# EAGLE library part LTC3114-1 (library uni_dcdc)
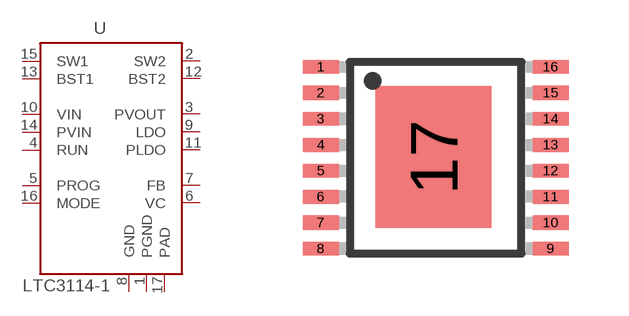
[diagram p0: symbol with the pads of TSSOP16; footprint TSSOP16]

Designator prefix -

## LTC3114-1  [TSSOP16]
1  PGND  pwr
2  SW2  oc
3  PVOUT  in
4  RUN  pas
5  PROG  pas
6  VC  in
7  FB  in
8  GND  pwr
9  LDO  in
10  VIN  oc
11  PLDO  in
12  BST2  pas
13  BST1  in
14  PVIN  in
15  SW1  pwr
16  MODE  pas
17  PAD  pwr

## Footprint TSSOP16 (pad centres in mm)
smd 0.9 x 0.35: 1 -2.875,2.275; 2 -2.875,1.625; 3 -2.875,0.975; 4 -2.875,0.325; 5 -2.875,-0.325; 6 -2.875,-0.975; 7 -2.875,-1.625; 8 -2.875,-2.275; 9 2.875,-2.275; 10 2.875,-1.625; 11 2.875,-0.975; 12 2.875,-0.325; 13 2.875,0.325; 14 2.875,0.975; 15 2.875,1.625; 16 2.875,2.275
smd 2.9 x 3.55: 17 -0.052,0.018